# Altium schematic symbol library EEG.SchLib: 14 symbols
Pins are listed as number, name and electrical type; pins without a type are passive.

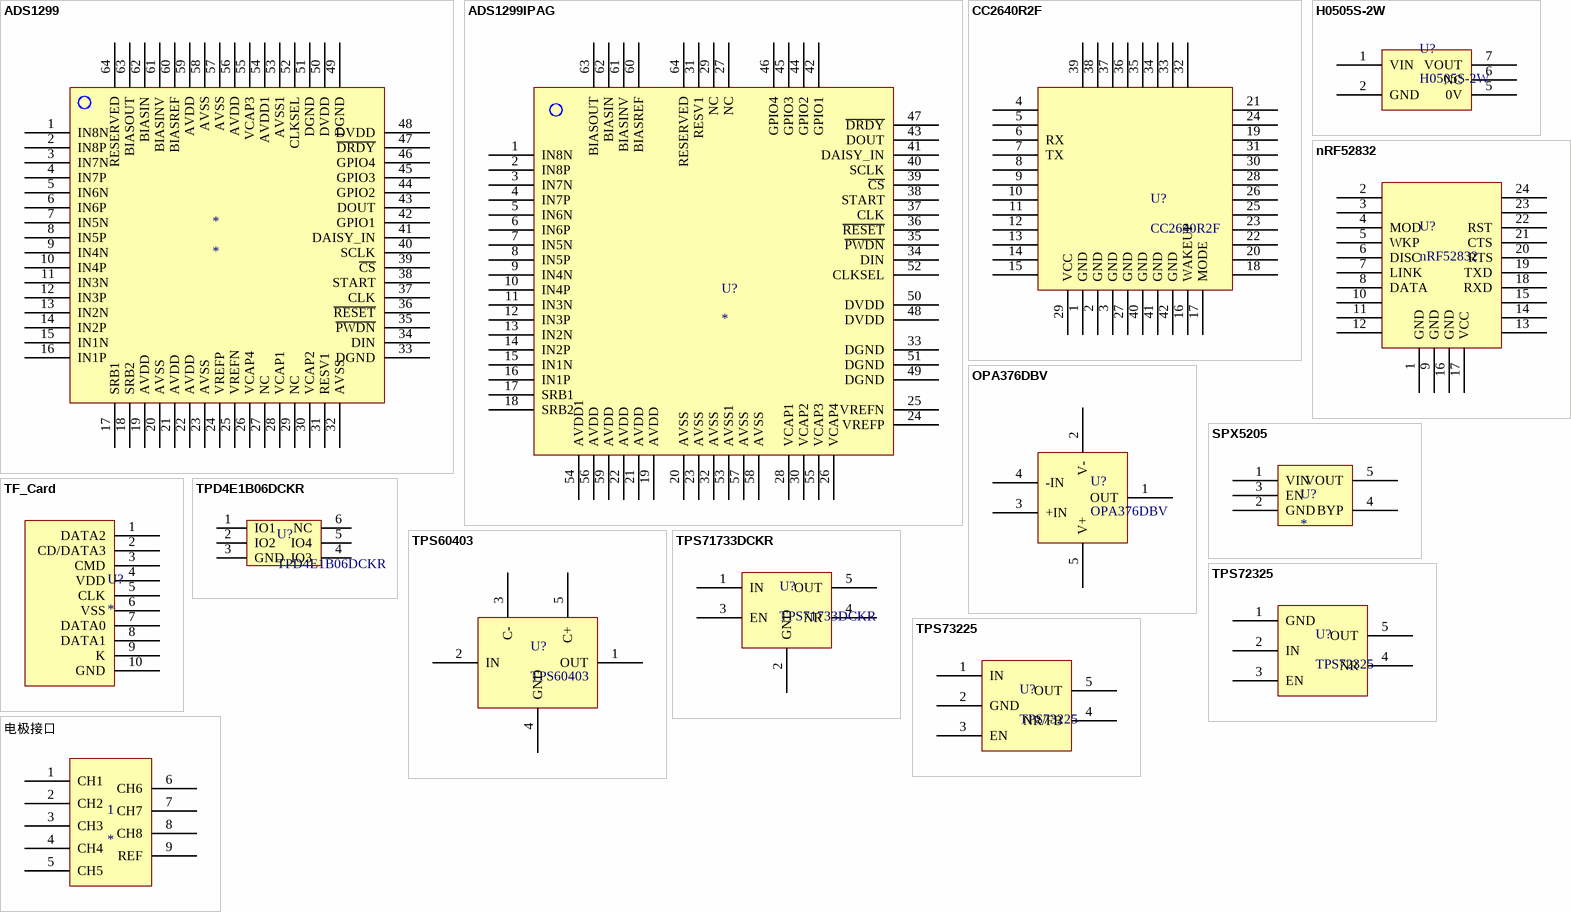
[diagram p0: symbols ADS1299 to 电极接口]

## ADS1299
designator *
footprint ADS1299
pins: 1 IN8N, 2 IN8P, 3 IN7N, 4 IN7P, 5 IN6N, 6 IN6P, 7 IN5N, 8 IN5P, 9 IN4N, 10 IN4P, 11 IN3N, 12 IN3P, 13 IN2N, 14 IN2P, 15 IN1N, 16 IN1P, 17 SRB1, 18 SRB2, 19 AVDD, 20 AVSS, 21 AVDD, 22 AVDD, 23 AVSS, 24 VREFP, 25 VREFN, 26 VCAP4, 27 NC, 28 VCAP1, 29 NC, 30 VCAP2, 31 RESV1, 32 AVSS, 33 DGND, 34 DIN, 35 ~{PWDN}, 36 ~{RESET}, 37 CLK, 38 START, 39 ~{CS}, 40 SCLK, 41 DAISY_IN, 42 GPIO1, 43 DOUT, 44 GPIO2, 45 GPIO3, 46 GPIO4, 47 ~{DRDY}, 48 DVDD, 49 DGND, 50 DVDD, 51 DGND, 52 CLKSEL, 53 AVSS1, 54 AVDD1, 55 VCAP3, 56 AVDD, 57 AVSS, 58 AVSS, 59 AVDD, 60 BIASREF, 61 BIASINV, 62 BIASIN, 63 BIASOUT, 64 RESERVED

## ADS1299IPAG
designator U?
footprint ADS1299
pins: 1 IN8N, 2 IN8P, 3 IN7N, 4 IN7P, 5 IN6N, 6 IN6P, 7 IN5N, 8 IN5P, 9 IN4N, 10 IN4P, 11 IN3N, 12 IN3P, 13 IN2N, 14 IN2P, 15 IN1N, 16 IN1P, 17 SRB1, 18 SRB2, 19 AVDD, 20 AVSS, 21 AVDD, 22 AVDD, 23 AVSS, 24 VREFP, 25 VREFN, 26 VCAP4, 27 NC, 28 VCAP1, 29 NC, 30 VCAP2, 31 RESV1, 32 AVSS, 33 DGND, 34 DIN, 35 ~{PWDN}, 36 ~{RESET}, 37 CLK, 38 START, 39 ~{CS}, 40 SCLK, 41 DAISY_IN, 42 GPIO1, 43 DOUT, 44 GPIO2, 45 GPIO3, 46 GPIO4, 47 ~{DRDY}, 48 DVDD, 49 DGND, 50 DVDD, 51 DGND, 52 CLKSEL, 53 AVSS1, 54 AVDD1, 55 VCAP3, 56 AVDD, 57 AVSS, 58 AVSS, 59 AVDD, 60 BIASREF, 61 BIASINV, 62 BIASIN, 63 BIASOUT, 64 RESERVED

## CC2640R2F
designator U?
footprint CC2640R2F
pins: 1 GND, 2 GND, 3 GND, 4, 5, 6 RX, 7 TX, 8, 9, 10, 11, 12, 13, 14, 15, 16 WAKEUP, 17 MODE, 18, 19, 20, 21, 22, 23, 24, 25, 26, 27 GND, 28, 29 VCC, 30, 31, 32, 33, 34, 35, 36, 37, 38, 39, 40 GND, 41 GND, 42 GND

## H0505S-2W
designator U?
pins: 1 VIN, 2 GND, 5 0V, 6 NC, 7 VOUT

## nRF52832
designator U?
footprint nRF52832
pins: 1 GND, 2, 3, 4 MOD, 5 WKP, 6 DISC, 7 LINK, 8 DATA, 9 GND, 10, 11, 12, 13, 14, 15, 16 GND, 17 VCC, 18 RXD, 19 TXD, 20 RTS, 21 CTS, 22 RST, 23, 24

## OPA376DBV
designator U?
footprint SOT-23-5 (Footprint not found)
pins: 1 OUT, 2 V-, 3 +IN, 4 -IN, 5 V+

## SPX5205
designator U?
footprint SPX5205
pins: 1 VIN, 2 GND, 3 EN, 4 BYP, 5 VOUT

## TF_Card
designator U?
footprint PCBComponent_1
pins: 1 DATA2, 2 CD/DATA3, 3 CMD, 4 VDD, 5 CLK, 6 VSS, 7 DATA0, 8 DATA1, 9 K, 10 GND

## TPD4E1B06DCKR
designator U?
footprint SOP6
pins: 1 IO1, 2 IO2, 3 GND, 4 IO3, 5 IO4, 6 NC

## TPS60403
designator U?
footprint SOT-23-5 (Footprint not found)
pins: 1 OUT, 2 IN, 3 C-, 4 GND, 5 C+

## TPS71733DCKR
designator U?
pins: 1 IN, 2 GND, 3 EN, 4 NR, 5 OUT

## TPS72325
designator U?
footprint SOT-23-5 (Footprint not found)
pins: 1 GND, 2 IN, 3 EN, 4 NR, 5 OUT

## TPS73225
designator U?
footprint SOT-23-5 (Footprint not found)
pins: 1 IN, 2 GND, 3 EN, 4 NR/FB, 5 OUT

## 电极接口
designator 1
pins: 1 CH1, 2 CH2, 3 CH3, 4 CH4, 5 CH5, 6 CH6, 7 CH7, 8 CH8, 9 REF